# EAGLE library part HEADER6 (library mike)
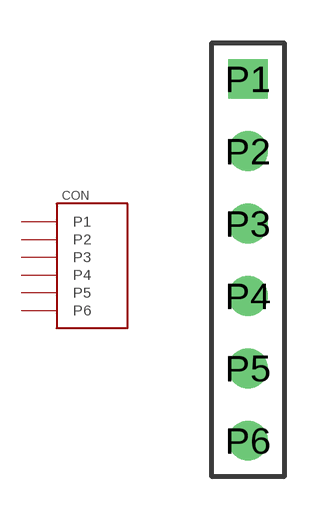
[diagram p20: symbol with the pads of HEADER6; footprint HEADER6]

Designator prefix CON

## HEADER6  [HEADER6]
P1  P1
P2  P2
P3  P3  pwr
P4  P4  pwr
P5  P5
P6  P6

## Footprint HEADER6 (pad centres in mm)
drill 0.889 square: P1 0,6.35
drill 0.889 round: P2 0,3.81; P3 0,1.27; P4 0,-1.27; P5 0,-3.81; P6 0,-6.35